# EAGLE library part ICE40HX1K (library rpi64)
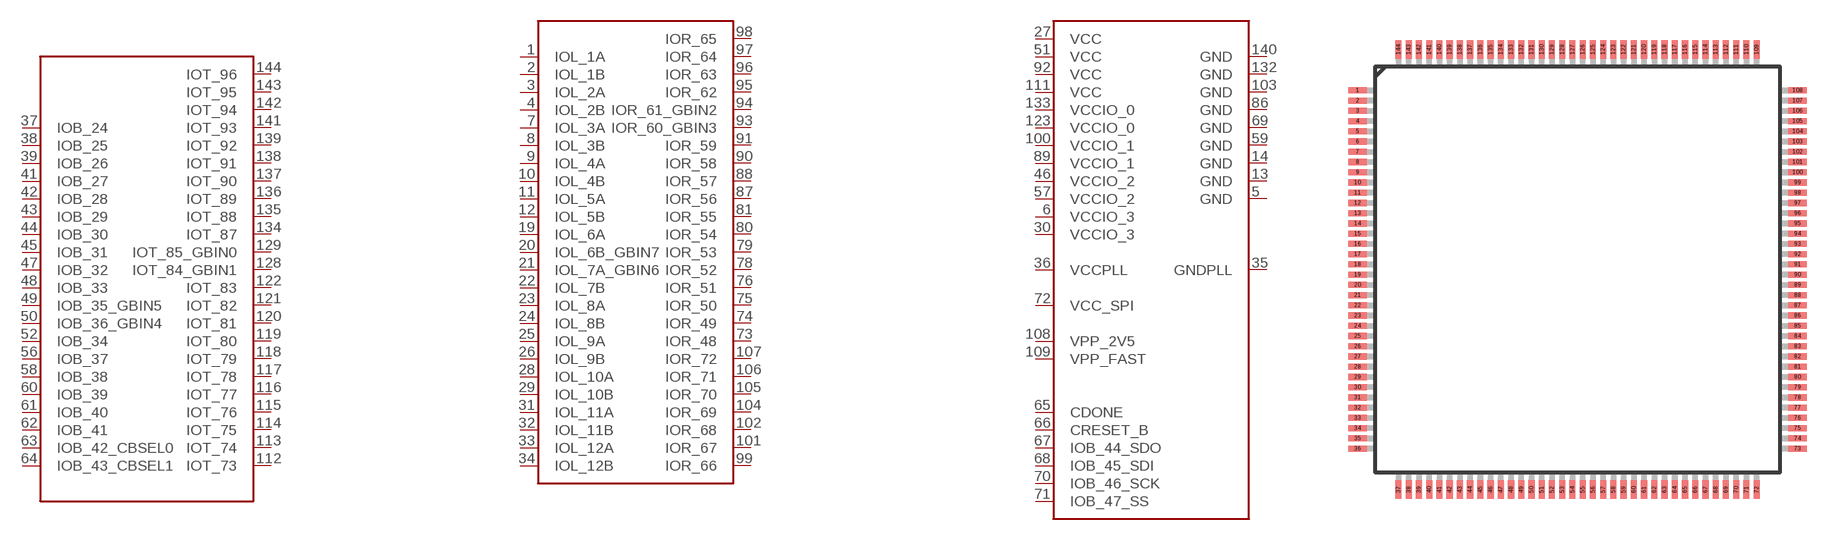
[diagram p1: symbol with the pads of TQFP144; footprint TQFP144]

Designator prefix -

## ICE40HX1K  [TQFP144]
1  IOL_1A
2  IOL_1B
3  IOL_2A
4  IOL_2B
5  GND  pwr
6  VCCIO_3  pwr
7  IOL_3A
8  IOL_3B
9  IOL_4A
10  IOL_4B
11  IOL_5A
12  IOL_5B
13  GND  pwr
14  GND  pwr
19  IOL_6A
20  IOL_6B_GBIN7
21  IOL_7A_GBIN6
22  IOL_7B
23  IOL_8A
24  IOL_8B
25  IOL_9A
26  IOL_9B
27  VCC  pwr
28  IOL_10A
29  IOL_10B
30  VCCIO_3  pwr
31  IOL_11A
32  IOL_11B
33  IOL_12A
34  IOL_12B
35  GNDPLL  pwr
36  VCCPLL  pwr
37  IOB_24
38  IOB_25
39  IOB_26
41  IOB_27
42  IOB_28
43  IOB_29
44  IOB_30
45  IOB_31
46  VCCIO_2  pwr
47  IOB_32
48  IOB_33
49  IOB_35_GBIN5
50  IOB_36_GBIN4
51  VCC  pwr
52  IOB_34
56  IOB_37
57  VCCIO_2  pwr
58  IOB_38
59  GND  pwr
60  IOB_39
61  IOB_40
62  IOB_41
63  IOB_42_CBSEL0
64  IOB_43_CBSEL1
65  CDONE
66  CRESET_B
67  IOB_44_SDO
68  IOB_45_SDI
69  GND  pwr
70  IOB_46_SCK
71  IOB_47_SS
72  VCC_SPI  pwr
73  IOR_48
74  IOR_49
75  IOR_50
76  IOR_51
78  IOR_52
79  IOR_53
80  IOR_54
81  IOR_55
86  GND  pwr
87  IOR_56
88  IOR_57
89  VCCIO_1  pwr
90  IOR_58
91  IOR_59
92  VCC  pwr
93  IOR_60_GBIN3
94  IOR_61_GBIN2
95  IOR_62
96  IOR_63
97  IOR_64
98  IOR_65
99  IOR_66
100  VCCIO_1  pwr
101  IOR_67
102  IOR_68
103  GND  pwr
104  IOR_69
105  IOR_70
106  IOR_71
107  IOR_72
108  VPP_2V5  pwr
109  VPP_FAST  pwr
111  VCC  pwr
112  IOT_73
113  IOT_74
114  IOT_75
115  IOT_76
116  IOT_77
117  IOT_78
118  IOT_79
119  IOT_80
120  IOT_81
121  IOT_82
122  IOT_83
123  VCCIO_0  pwr
128  IOT_84_GBIN1
129  IOT_85_GBIN0
132  GND  pwr
133  VCCIO_0  pwr
134  IOT_87
135  IOT_88
136  IOT_89
137  IOT_90
138  IOT_91
139  IOT_92
140  GND  pwr
141  IOT_93
142  IOT_94
143  IOT_95
144  IOT_96

## Footprint TQFP144 (pad centres in mm)
smd 0.9 x 0.3: 1 -8.21,7.48; 2 -8.21,6.98; 3 -8.21,6.48; 4 -8.21,5.98; 5 -8.21,5.48; 6 -8.21,4.98; 7 -8.21,4.48; 8 -8.21,3.98; 9 -8.21,3.48; 10 -8.21,2.98; 11 -8.21,2.48; 12 -8.21,1.98; 13 -8.21,1.48; 14 -8.21,0.98; 15 -8.21,0.48; 16 -8.21,-0.02; 17 -8.21,-0.52; 18 -8.21,-1.02; 19 -8.21,-1.52; 20 -8.21,-2.02; 21 -8.21,-2.52; 22 -8.21,-3.02; 23 -8.21,-3.52; 24 -8.21,-4.02; 25 -8.21,-4.52; 26 -8.21,-5.02; 27 -8.21,-5.52; 28 -8.21,-6.02; 29 -8.21,-6.52; 30 -8.21,-7.02; 31 -8.21,-7.52; 32 -8.21,-8.02; 33 -8.21,-8.52; 34 -8.21,-9.02; 35 -8.21,-9.52; 36 -8.21,-10.02; 73 13.29,-10.02; 74 13.29,-9.52; 75 13.29,-9.02; 76 13.29,-8.52; 77 13.29,-8.02; 78 13.29,-7.52; 79 13.29,-7.02; 80 13.29,-6.52; 81 13.29,-6.02; 82 13.29,-5.52; 83 13.29,-5.02; 84 13.29,-4.52; 85 13.29,-4.02; 86 13.29,-3.52; 87 13.29,-3.02; 88 13.29,-2.52; 89 13.29,-2.02; 90 13.29,-1.52; 91 13.29,-1.02; 92 13.29,-0.52; 93 13.29,-0.02; 94 13.29,0.48; 95 13.29,0.98; 96 13.29,1.48; 97 13.29,1.98; 98 13.29,2.48; 99 13.29,2.98; 100 13.29,3.48; 101 13.29,3.98; 102 13.29,4.48; 103 13.29,4.98; 104 13.29,5.48; 105 13.29,5.98; 106 13.29,6.48; 107 13.29,6.98; 108 13.29,7.48
smd 0.3 x 0.9: 37 -6.21,-12.02; 38 -5.71,-12.02; 39 -5.21,-12.02; 40 -4.71,-12.02; 41 -4.21,-12.02; 42 -3.71,-12.02; 43 -3.21,-12.02; 44 -2.71,-12.02; 45 -2.21,-12.02; 46 -1.71,-12.02; 47 -1.21,-12.02; 48 -0.71,-12.02; 49 -0.21,-12.02; 50 0.29,-12.02; 51 0.79,-12.02; 52 1.29,-12.02; 53 1.79,-12.02; 54 2.29,-12.02; 55 2.79,-12.02; 56 3.29,-12.02; 57 3.79,-12.02; 58 4.29,-12.02; 59 4.79,-12.02; 60 5.29,-12.02; 61 5.79,-12.02; 62 6.29,-12.02; 63 6.79,-12.02; 64 7.29,-12.02; 65 7.79,-12.02; 66 8.29,-12.02; 67 8.79,-12.02; 68 9.29,-12.02; 69 9.79,-12.02; 70 10.29,-12.02; 71 10.79,-12.02; 72 11.29,-12.02; 109 11.29,9.48; 110 10.79,9.48; 111 10.29,9.48; 112 9.79,9.48; 113 9.29,9.48; 114 8.79,9.48; 115 8.29,9.48; 116 7.79,9.48; 117 7.29,9.48; 118 6.79,9.48; 119 6.29,9.48; 120 5.79,9.48; 121 5.29,9.48; 122 4.79,9.48; 123 4.29,9.48; 124 3.79,9.48; 125 3.29,9.48; 126 2.79,9.48; 127 2.29,9.48; 128 1.79,9.48; 129 1.29,9.48; 130 0.79,9.48; 131 0.29,9.48; 132 -0.21,9.48; 133 -0.71,9.48; 134 -1.21,9.48; 135 -1.71,9.48; 136 -2.21,9.48; 137 -2.71,9.48; 138 -3.21,9.48; 139 -3.71,9.48; 140 -4.21,9.48; 141 -4.71,9.48; 142 -5.21,9.48; 143 -5.71,9.48; 144 -6.21,9.48